# Altium integrated library TI Amplifiers and Linear Operational Amplifier High Speed.IntLib: 1100 symbols (part 25 of 44)
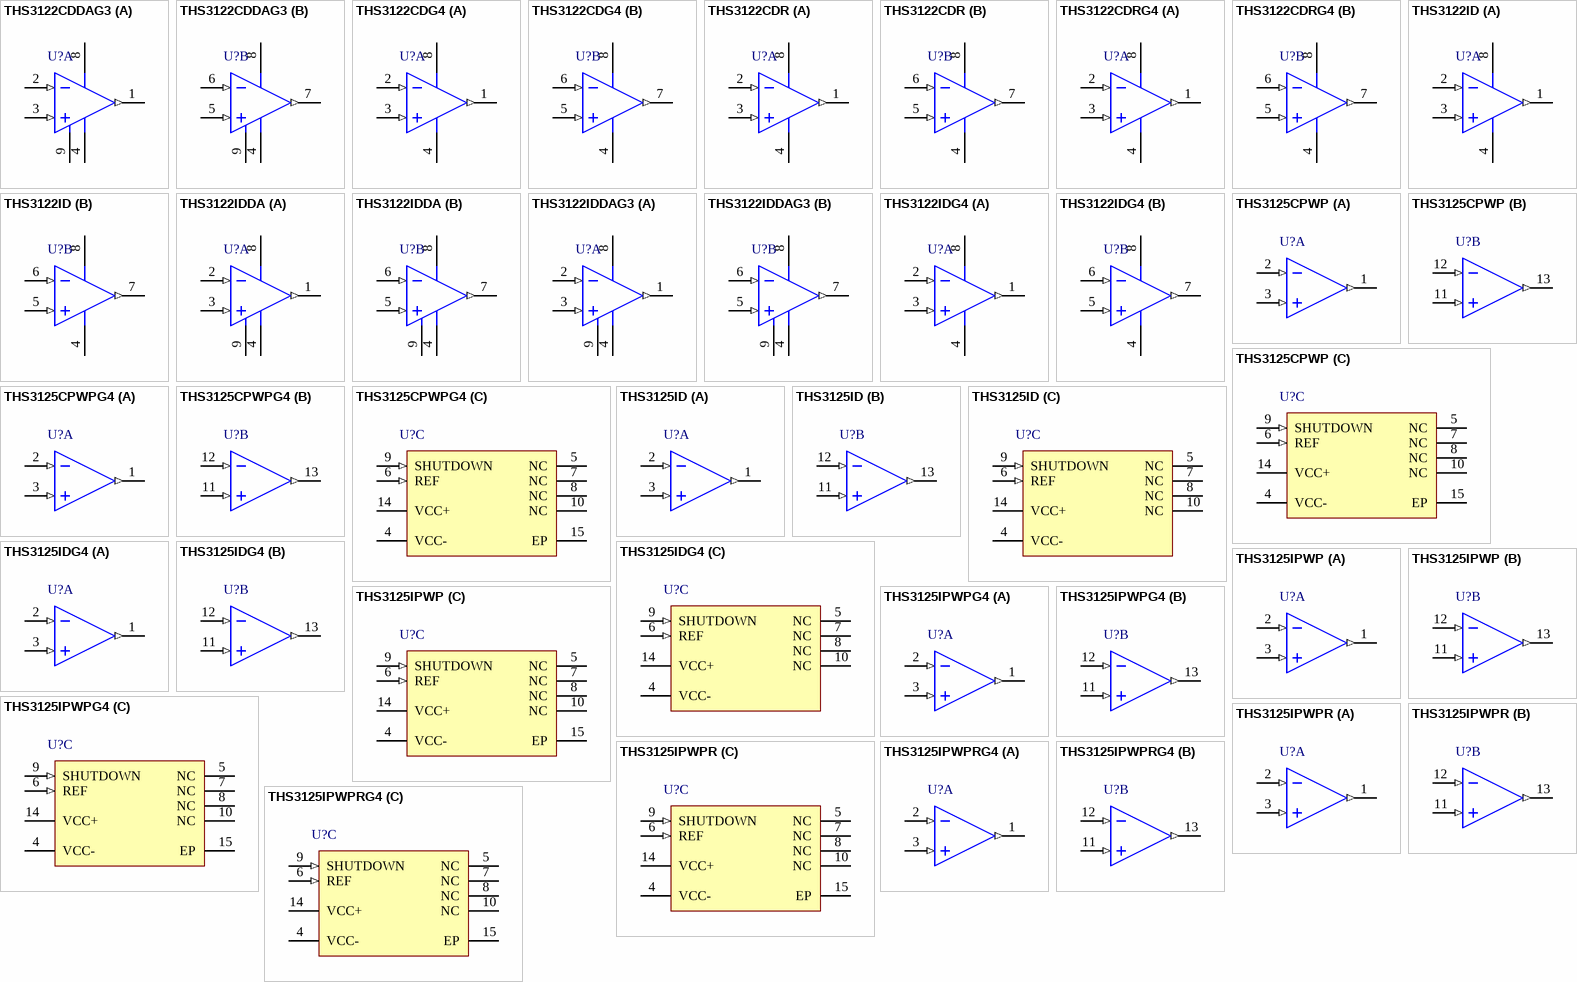
[diagram p75: symbols THS3122CDDAG3 to THS3125IPWPRG4]

## THS3125IPWPRG4
designator U?
Dual, High Output Current, 120 MHz Amplifier with Shutdown, 10 to 30 V, -40 to 85 degC, 14-pin SOP (PWP14), Green (RoHS & no Sb/Br); Manufacturer: Texas Instruments; PartNumber: THS3125IPWPRG4; 2nd Harmonic(dBc): 62; 3rd Harmonic(dBc): 55; @ MHz: 10; Acl, min stable gain(V/V): 1; BW @ Acl(MHz): 160; Diff Gain(%): 0.01; Diff Phase(deg): 0.011; Iib(Max)(nA): 3000; Io(Typ)(mA): 440; Iq per channel(Max)(mA): 9; Number of Channels: 2; Settling Time (0.1%)(Typ)(ns): 64; Slew Rate(Typ)(V/us): 1550; Sub Family: High Output Current Amplifier (>=50mA), High Speed Amplifier (>=50MHz), High Supply Voltage Amplifier (>=30V); THD (Fc is 1 MHz)(Typ)(dB): -77; Vn at Flatband(Typ)(nV/rtHz): 2.2; Vs(Max)(V): 30; DatasheetVersion: SLOS382D; PackageVersion: 4073225-2/I, 05/2011; PackageReference: PWP14-1830X2055TP; PackageDescription: 14-Pin Plastic Small Outline, Body 4.4 x 5 mm, Pitch 0.65 mm; Supplier 1: Digi-Key; Supplier Part Number 1: THS3125IPWPRG4-ND; Supplier 2: Mouser; Supplier Part Number 2: 595-THS3125IPWPRG4; Eco-Plan: Green (RoHS & no Sb/Br); Vio(Max)(mV): 10; Vs(Min)(V): 10; Mounting Technology: Surface Mount; Code_JEDEC: MO-153; ComponentLink1Description: Manufacturer URL; ComponentLink1URL: http://www.ti.com/; ComponentLink2Description: Datasheet; ComponentLink2URL: http://www.ti.com/general/docs/lit/getliterature.tsp?genericPartNumber=THS3125&fileType=pdf; ComponentLink3Description: Package Specification; ComponentLink3URL: http://www.ti.com/litv/pdf/mpds373
footprint TI-PWP14-1830X2055TP_N (SOP, 14-Leads, Body 5x4.4mm, Pitch 0.65mm, Thermal Pad 1.830x2.055mm, IPC Medium Density)
footprint TI-PWP14-1830X2055TP_L (SOP, 14-Leads, Body 5x4.4mm, Pitch 0.65mm, Thermal Pad 1.830x2.055mm, IPC High Density)
footprint TI-PWP14-1830X2055TP_M (SOP, 14-Leads, Body 5x4.4mm, Pitch 0.65mm, Thermal Pad 1.830x2.055mm, IPC Low Density)
part A pins: 1 OUT1 (out), 2 IN1- (in), 3 IN1+ (in)
part B pins: 11 IN2+ (in), 12 IN2- (in), 13 OUT2 (out)
part C pins: 4 VCC- (power), 5 NC, 6 REF (in), 7 NC, 8 NC, 9 SHUTDOWN (in), 10 NC, 14 VCC+ (power), 15 EP

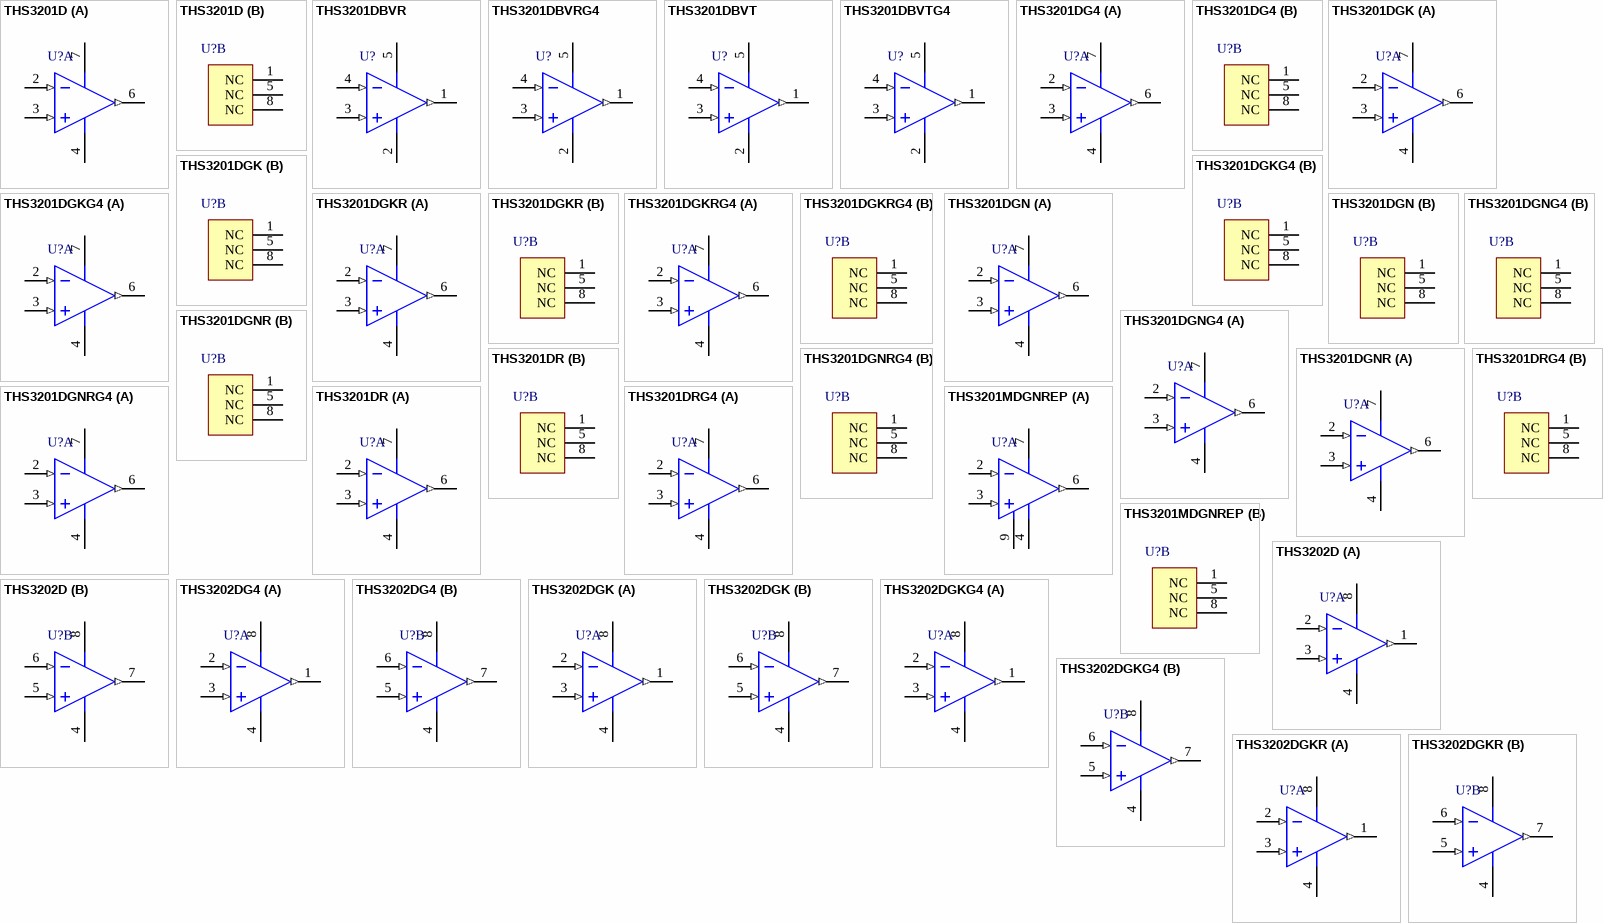
[diagram p30: symbols THS3201D to THS3202DGKR]

## THS3201D
designator U?
1.8 GHz Current Feedback Amplifier, 6.6 to 15 V, -40 to 85 degC, 8-pin SOIC (D8), Green (RoHS & no Sb/Br); Manufacturer: Texas Instruments; PartNumber: THS3201D; 2nd Harmonic(dBc): 64; 3rd Harmonic(dBc): 73; @ MHz: 10; Acl, min stable gain(V/V): 1; BW @ Acl(MHz): 1800; Diff Gain(%): 0.008; Diff Phase(deg): 0.007; Iib(Max)(nA): 50000; Io(Typ)(mA): 115; Iq per channel(Max)(mA): 21; Settling Time (0.1%)(Typ)(ns): 20; Slew Rate(Typ)(V/us): 6700; Sub Family: High Output Current Amplifier (>=50mA), High Speed Amplifier (>=50MHz); THD (Fc is 1 MHz)(Typ)(dB): -90; Vio(Max)(mV): 4; Vn at Flatband(Typ)(nV/rtHz): 1.65; Vs(Max)(V): 15; Vs(Min)(V): 6.6; DatasheetVersion: SLOS416C; PackageVersion: 4040047-3/M, 06/2011; PackageReference: D8; PackageDescription: 8-Pin Plastic Small Outline, Body 4.9 x 3.9 mm, Pitch 1.27 mm; Supplier 1: Digi-Key; Supplier Part Number 1: 296-15216-5-ND; Supplier 2: Farnell; Supplier Part Number 2: 8453063; Supplier 3: Newark; Supplier Part Number 3: 38K8233; Supplier 4: Newark; Supplier Part Number 4: 73H4611; Supplier 5: Mouser; Supplier Part Number 5: 595-THS3201D; Eco-Plan: Green (RoHS & no Sb/Br); Number of Channels: 1; Mounting Technology: Surface Mount; Code_JEDEC: MS-012; ComponentLink1Description: Manufacturer URL; ComponentLink1URL: http://www.ti.com/; ComponentLink2Description: Datasheet; ComponentLink2URL: http://www.ti.com/general/docs/lit/getliterature.tsp?genericPartNumber=THS3201&fileType=pdf; ComponentLink3Description: Package Specification; ComponentLink3URL: http://www.ti.com/litv/pdf/msoi002j
footprint TI-D8_N (SOIC, 8-Leads, Body 4.9x3.9mm, Pitch 1.27mm, IPC Medium Density)
footprint TI-D8_L (SOIC, 8-Leads, Body 4.9x3.9mm, Pitch 1.27mm, IPC High Density)
footprint TI-D8_M (SOIC, 8-Leads, Body 4.9x3.9mm, Pitch 1.27mm, IPC Low Density)
part A pins: 2 VIN- (in), 3 VIN+ (in), 4 VS- (power), 6 VOUT (out), 7 VS+ (power)
part B pins: 1 NC, 5 NC, 8 NC

## THS3201DBVR
designator U?
1.8 GHz Current Feedback Amplifier, 6.6 to 15 V, -40 to 85 degC, 5-pin SOT23 (DBV5), Green (RoHS & no Sb/Br); Manufacturer: Texas Instruments; PartNumber: THS3201DBVR; 2nd Harmonic(dBc): 64; 3rd Harmonic(dBc): 73; @ MHz: 10; Acl, min stable gain(V/V): 1; BW @ Acl(MHz): 1800; Diff Gain(%): 0.008; Diff Phase(deg): 0.007; Iib(Max)(nA): 50000; Io(Typ)(mA): 115; Iq per channel(Max)(mA): 21; Settling Time (0.1%)(Typ)(ns): 20; Slew Rate(Typ)(V/us): 6700; Sub Family: High Output Current Amplifier (>=50mA), High Speed Amplifier (>=50MHz); THD (Fc is 1 MHz)(Typ)(dB): -90; Vio(Max)(mV): 4; Vn at Flatband(Typ)(nV/rtHz): 1.65; Vs(Max)(V): 15; Vs(Min)(V): 6.6; DatasheetVersion: SLOS416C; PackageVersion: 4073253-4/K, 03/2006; PackageReference: DBV5; PackageDescription: 5-Pin Plastic Small Outline, Body 1.6 x 2.9 mm, Pitch 0.95 mm; Supplier 1: Digi-Key; Supplier Part Number 1: THS3201DBVR-ND; Supplier 2: Mouser; Supplier Part Number 2: 595-THS3201DBVR; Eco-Plan: Green (RoHS & no Sb/Br); Number of Channels: 1; Mounting Technology: Surface Mount; Code_JEDEC: MO-178; ComponentLink1Description: Manufacturer URL; ComponentLink1URL: http://www.ti.com/; ComponentLink2Description: Datasheet; ComponentLink2URL: http://www.ti.com/general/docs/lit/getliterature.tsp?genericPartNumber=THS3201&fileType=pdf; ComponentLink3Description: Package Specification; ComponentLink3URL: http://www.ti.com/litv/pdf/mpds018i
footprint TI-DBV5_N (SOT23, 5-Leads, Body 2.9x1.6mm, Pitch 0.95mm, IPC Medium Density)
footprint TI-DBV5_L (SOT23, 5-Leads, Body 2.9x1.6mm, Pitch 0.95mm, IPC High Density)
footprint TI-DBV5_M (SOT23, 5-Leads, Body 2.9x1.6mm, Pitch 0.95mm, IPC Low Density)
pins: 1 VOUT (out), 2 VS- (power), 3 IN+ (in), 4 IN- (in), 5 VS+ (power)

## THS3201DBVRG4
designator U?
1.8 GHz Current Feedback Amplifier, 6.6 to 15 V, -40 to 85 degC, 5-pin SOT23 (DBV5), Green (RoHS & no Sb/Br); Manufacturer: Texas Instruments; PartNumber: THS3201DBVRG4; 2nd Harmonic(dBc): 64; 3rd Harmonic(dBc): 73; @ MHz: 10; Acl, min stable gain(V/V): 1; BW @ Acl(MHz): 1800; Diff Gain(%): 0.008; Diff Phase(deg): 0.007; Iib(Max)(nA): 50000; Io(Typ)(mA): 115; Iq per channel(Max)(mA): 21; Settling Time (0.1%)(Typ)(ns): 20; Slew Rate(Typ)(V/us): 6700; Sub Family: High Output Current Amplifier (>=50mA), High Speed Amplifier (>=50MHz); THD (Fc is 1 MHz)(Typ)(dB): -90; Vio(Max)(mV): 4; Vn at Flatband(Typ)(nV/rtHz): 1.65; Vs(Max)(V): 15; Vs(Min)(V): 6.6; DatasheetVersion: SLOS416C; PackageVersion: 4073253-4/K, 03/2006; PackageReference: DBV5; PackageDescription: 5-Pin Plastic Small Outline, Body 1.6 x 2.9 mm, Pitch 0.95 mm; Supplier 1: Digi-Key; Supplier Part Number 1: THS3201DBVRG4-ND; Supplier 2: Mouser; Supplier Part Number 2: 595-THS3201DBVRG4; Eco-Plan: Green (RoHS & no Sb/Br); Number of Channels: 1; Mounting Technology: Surface Mount; Code_JEDEC: MO-178; ComponentLink1Description: Manufacturer URL; ComponentLink1URL: http://www.ti.com/; ComponentLink2Description: Datasheet; ComponentLink2URL: http://www.ti.com/general/docs/lit/getliterature.tsp?genericPartNumber=THS3201&fileType=pdf; ComponentLink3Description: Package Specification; ComponentLink3URL: http://www.ti.com/litv/pdf/mpds018i
footprint TI-DBV5_N (SOT23, 5-Leads, Body 2.9x1.6mm, Pitch 0.95mm, IPC Medium Density)
footprint TI-DBV5_L (SOT23, 5-Leads, Body 2.9x1.6mm, Pitch 0.95mm, IPC High Density)
footprint TI-DBV5_M (SOT23, 5-Leads, Body 2.9x1.6mm, Pitch 0.95mm, IPC Low Density)
pins: 1 VOUT (out), 2 VS- (power), 3 IN+ (in), 4 IN- (in), 5 VS+ (power)

## THS3201DBVT
designator U?
1.8 GHz Current Feedback Amplifier, 6.6 to 15 V, -40 to 85 degC, 5-pin SOT23 (DBV5), Green (RoHS & no Sb/Br); Manufacturer: Texas Instruments; PartNumber: THS3201DBVT; 2nd Harmonic(dBc): 64; 3rd Harmonic(dBc): 73; @ MHz: 10; Acl, min stable gain(V/V): 1; BW @ Acl(MHz): 1800; Diff Gain(%): 0.008; Diff Phase(deg): 0.007; Iib(Max)(nA): 50000; Io(Typ)(mA): 115; Iq per channel(Max)(mA): 21; Settling Time (0.1%)(Typ)(ns): 20; Slew Rate(Typ)(V/us): 6700; Sub Family: High Output Current Amplifier (>=50mA), High Speed Amplifier (>=50MHz); THD (Fc is 1 MHz)(Typ)(dB): -90; Vio(Max)(mV): 4; Vn at Flatband(Typ)(nV/rtHz): 1.65; Vs(Max)(V): 15; Vs(Min)(V): 6.6; DatasheetVersion: SLOS416C; PackageVersion: 4073253-4/K, 03/2006; PackageReference: DBV5; PackageDescription: 5-Pin Plastic Small Outline, Body 1.6 x 2.9 mm, Pitch 0.95 mm; Supplier 1: Digi-Key; Supplier Part Number 1: 296-15217-2-ND; Supplier 2: Digi-Key; Supplier Part Number 2: 296-15217-1-ND; Supplier 3: Digi-Key; Supplier Part Number 3: 296-15217-6-ND; Supplier 4: Newark; Supplier Part Number 4: 73H4613; Supplier 5: Mouser; Supplier Part Number 5: 595-THS3201DBVT; Eco-Plan: Green (RoHS & no Sb/Br); Number of Channels: 1; Mounting Technology: Surface Mount; Code_JEDEC: MO-178; ComponentLink1Description: Manufacturer URL; ComponentLink1URL: http://www.ti.com/; ComponentLink2Description: Datasheet; ComponentLink2URL: http://www.ti.com/general/docs/lit/getliterature.tsp?genericPartNumber=THS3201&fileType=pdf; ComponentLink3Description: Package Specification; ComponentLink3URL: http://www.ti.com/litv/pdf/mpds018i
footprint TI-DBV5_N (SOT23, 5-Leads, Body 2.9x1.6mm, Pitch 0.95mm, IPC Medium Density)
footprint TI-DBV5_L (SOT23, 5-Leads, Body 2.9x1.6mm, Pitch 0.95mm, IPC High Density)
footprint TI-DBV5_M (SOT23, 5-Leads, Body 2.9x1.6mm, Pitch 0.95mm, IPC Low Density)
pins: 1 VOUT (out), 2 VS- (power), 3 IN+ (in), 4 IN- (in), 5 VS+ (power)

## THS3201DBVTG4
designator U?
1.8 GHz Current Feedback Amplifier, 6.6 to 15 V, -40 to 85 degC, 5-pin SOT23 (DBV5), Green (RoHS & no Sb/Br); Manufacturer: Texas Instruments; PartNumber: THS3201DBVTG4; 2nd Harmonic(dBc): 64; 3rd Harmonic(dBc): 73; @ MHz: 10; Acl, min stable gain(V/V): 1; BW @ Acl(MHz): 1800; Diff Gain(%): 0.008; Diff Phase(deg): 0.007; Iib(Max)(nA): 50000; Io(Typ)(mA): 115; Iq per channel(Max)(mA): 21; Settling Time (0.1%)(Typ)(ns): 20; Slew Rate(Typ)(V/us): 6700; Sub Family: High Output Current Amplifier (>=50mA), High Speed Amplifier (>=50MHz); THD (Fc is 1 MHz)(Typ)(dB): -90; Vio(Max)(mV): 4; Vn at Flatband(Typ)(nV/rtHz): 1.65; Vs(Max)(V): 15; Vs(Min)(V): 6.6; DatasheetVersion: SLOS416C; PackageVersion: 4073253-4/K, 03/2006; PackageReference: DBV5; PackageDescription: 5-Pin Plastic Small Outline, Body 1.6 x 2.9 mm, Pitch 0.95 mm; Supplier 1: Digi-Key; Supplier Part Number 1: THS3201DBVTG4-ND; Supplier 2: Mouser; Supplier Part Number 2: 595-THS3201DBVTG4; Eco-Plan: Green (RoHS & no Sb/Br); Number of Channels: 1; Mounting Technology: Surface Mount; Code_JEDEC: MO-178; ComponentLink1Description: Manufacturer URL; ComponentLink1URL: http://www.ti.com/; ComponentLink2Description: Datasheet; ComponentLink2URL: http://www.ti.com/general/docs/lit/getliterature.tsp?genericPartNumber=THS3201&fileType=pdf; ComponentLink3Description: Package Specification; ComponentLink3URL: http://www.ti.com/litv/pdf/mpds018i
footprint TI-DBV5_N (SOT23, 5-Leads, Body 2.9x1.6mm, Pitch 0.95mm, IPC Medium Density)
footprint TI-DBV5_L (SOT23, 5-Leads, Body 2.9x1.6mm, Pitch 0.95mm, IPC High Density)
footprint TI-DBV5_M (SOT23, 5-Leads, Body 2.9x1.6mm, Pitch 0.95mm, IPC Low Density)
pins: 1 VOUT (out), 2 VS- (power), 3 IN+ (in), 4 IN- (in), 5 VS+ (power)

## THS3201DG4
designator U?
1.8 GHz Current Feedback Amplifier, 6.6 to 15 V, -40 to 85 degC, 8-pin SOIC (D8), Green (RoHS & no Sb/Br); Manufacturer: Texas Instruments; PartNumber: THS3201DG4; 2nd Harmonic(dBc): 64; 3rd Harmonic(dBc): 73; @ MHz: 10; Acl, min stable gain(V/V): 1; BW @ Acl(MHz): 1800; Diff Gain(%): 0.008; Diff Phase(deg): 0.007; Iib(Max)(nA): 50000; Io(Typ)(mA): 115; Iq per channel(Max)(mA): 21; Settling Time (0.1%)(Typ)(ns): 20; Slew Rate(Typ)(V/us): 6700; Sub Family: High Output Current Amplifier (>=50mA), High Speed Amplifier (>=50MHz); THD (Fc is 1 MHz)(Typ)(dB): -90; Vio(Max)(mV): 4; Vn at Flatband(Typ)(nV/rtHz): 1.65; Vs(Max)(V): 15; Vs(Min)(V): 6.6; DatasheetVersion: SLOS416C; PackageVersion: 4040047-3/M, 06/2011; PackageReference: D8; PackageDescription: 8-Pin Plastic Small Outline, Body 4.9 x 3.9 mm, Pitch 1.27 mm; Supplier 1: Digi-Key; Supplier Part Number 1: THS3201DG4-ND; Supplier 2: Mouser; Supplier Part Number 2: 595-THS3201DG4; Eco-Plan: Green (RoHS & no Sb/Br); Number of Channels: 1; Mounting Technology: Surface Mount; Code_JEDEC: MS-012; ComponentLink1Description: Manufacturer URL; ComponentLink1URL: http://www.ti.com/; ComponentLink2Description: Datasheet; ComponentLink2URL: http://www.ti.com/general/docs/lit/getliterature.tsp?genericPartNumber=THS3201&fileType=pdf; ComponentLink3Description: Package Specification; ComponentLink3URL: http://www.ti.com/litv/pdf/msoi002j
footprint TI-D8_N (SOIC, 8-Leads, Body 4.9x3.9mm, Pitch 1.27mm, IPC Medium Density)
footprint TI-D8_L (SOIC, 8-Leads, Body 4.9x3.9mm, Pitch 1.27mm, IPC High Density)
footprint TI-D8_M (SOIC, 8-Leads, Body 4.9x3.9mm, Pitch 1.27mm, IPC Low Density)
part A pins: 2 VIN- (in), 3 VIN+ (in), 4 VS- (power), 6 VOUT (out), 7 VS+ (power)
part B pins: 1 NC, 5 NC, 8 NC

## THS3201DGK
designator U?
1.8 GHz Current Feedback Amplifier, 6.6 to 15 V, 0 to 70 degC, 8-pin SOP (DGK8), Green (RoHS & no Sb/Br); Manufacturer: Texas Instruments; PartNumber: THS3201DGK; 2nd Harmonic(dBc): 64; 3rd Harmonic(dBc): 73; @ MHz: 10; Acl, min stable gain(V/V): 1; BW @ Acl(MHz): 1800; Diff Gain(%): 0.008; Diff Phase(deg): 0.007; Iib(Max)(nA): 50000; Io(Typ)(mA): 115; Iq per channel(Max)(mA): 21; Settling Time (0.1%)(Typ)(ns): 20; Slew Rate(Typ)(V/us): 6700; Sub Family: High Output Current Amplifier (>=50mA), High Speed Amplifier (>=50MHz); THD (Fc is 1 MHz)(Typ)(dB): -90; Vio(Max)(mV): 4; Vn at Flatband(Typ)(nV/rtHz): 1.65; Vs(Max)(V): 15; Vs(Min)(V): 6.6; DatasheetVersion: SLOS416C; PackageVersion: 4073329/E, 05/2006; PackageReference: DGK8; PackageDescription: 8-Pin Thin Small Outline, Body 3 x 3 mm, Pitch 0.65 mm; Supplier 1: Digi-Key; Supplier Part Number 1: 296-16776-5-ND; Supplier 2: Mouser; Supplier Part Number 2: 595-THS3201DGK; Eco-Plan: Green (RoHS & no Sb/Br); Number of Channels: 1; Mounting Technology: Surface Mount; Code_JEDEC: MO-187; ComponentLink1Description: Manufacturer URL; ComponentLink1URL: http://www.ti.com/; ComponentLink2Description: Datasheet; ComponentLink2URL: http://www.ti.com/general/docs/lit/getliterature.tsp?genericPartNumber=THS3201&fileType=pdf; ComponentLink3Description: Package Specification; ComponentLink3URL: http://www.ti.com/litv/pdf/mpds028d
footprint TI-DGK8_N (SOP, 8-Leads, Body 3x3mm, Pitch 0.65mm, IPC Medium Density)
footprint TI-DGK8_L (SOP, 8-Leads, Body 3x3mm, Pitch 0.65mm, IPC High Density)
footprint TI-DGK8_M (SOP, 8-Leads, Body 3x3mm, Pitch 0.65mm, IPC Low Density)
part A pins: 2 VIN- (in), 3 VIN+ (in), 4 VS- (power), 6 VOUT (out), 7 VS+ (power)
part B pins: 1 NC, 5 NC, 8 NC

## THS3201DGKG4
designator U?
1.8 GHz Current Feedback Amplifier, 6.6 to 15 V, 0 to 70 degC, 8-pin SOP (DGK8), Green (RoHS & no Sb/Br); Manufacturer: Texas Instruments; PartNumber: THS3201DGKG4; 2nd Harmonic(dBc): 64; 3rd Harmonic(dBc): 73; @ MHz: 10; Acl, min stable gain(V/V): 1; BW @ Acl(MHz): 1800; Diff Gain(%): 0.008; Diff Phase(deg): 0.007; Iib(Max)(nA): 50000; Io(Typ)(mA): 115; Iq per channel(Max)(mA): 21; Settling Time (0.1%)(Typ)(ns): 20; Slew Rate(Typ)(V/us): 6700; Sub Family: High Output Current Amplifier (>=50mA), High Speed Amplifier (>=50MHz); THD (Fc is 1 MHz)(Typ)(dB): -90; Vio(Max)(mV): 4; Vn at Flatband(Typ)(nV/rtHz): 1.65; Vs(Max)(V): 15; Vs(Min)(V): 6.6; DatasheetVersion: SLOS416C; PackageVersion: 4073329/E, 05/2006; PackageReference: DGK8; PackageDescription: 8-Pin Thin Small Outline, Body 3 x 3 mm, Pitch 0.65 mm; Supplier 1: Digi-Key; Supplier Part Number 1: THS3201DGKG4-ND; Supplier 2: Mouser; Supplier Part Number 2: 595-THS3201DGKG4; Eco-Plan: Green (RoHS & no Sb/Br); Number of Channels: 1; Mounting Technology: Surface Mount; Code_JEDEC: MO-187; ComponentLink1Description: Manufacturer URL; ComponentLink1URL: http://www.ti.com/; ComponentLink2Description: Datasheet; ComponentLink2URL: http://www.ti.com/general/docs/lit/getliterature.tsp?genericPartNumber=THS3201&fileType=pdf; ComponentLink3Description: Package Specification; ComponentLink3URL: http://www.ti.com/litv/pdf/mpds028d
footprint TI-DGK8_N (SOP, 8-Leads, Body 3x3mm, Pitch 0.65mm, IPC Medium Density)
footprint TI-DGK8_L (SOP, 8-Leads, Body 3x3mm, Pitch 0.65mm, IPC High Density)
footprint TI-DGK8_M (SOP, 8-Leads, Body 3x3mm, Pitch 0.65mm, IPC Low Density)
part A pins: 2 VIN- (in), 3 VIN+ (in), 4 VS- (power), 6 VOUT (out), 7 VS+ (power)
part B pins: 1 NC, 5 NC, 8 NC

## THS3201DGKR
designator U?
1.8 GHz Current Feedback Amplifier, 6.6 to 15 V, 0 to 70 degC, 8-pin SOP (DGK8), Green (RoHS & no Sb/Br); Manufacturer: Texas Instruments; PartNumber: THS3201DGKR; 2nd Harmonic(dBc): 64; 3rd Harmonic(dBc): 73; @ MHz: 10; Acl, min stable gain(V/V): 1; BW @ Acl(MHz): 1800; Diff Gain(%): 0.008; Diff Phase(deg): 0.007; Iib(Max)(nA): 50000; Io(Typ)(mA): 115; Iq per channel(Max)(mA): 21; Settling Time (0.1%)(Typ)(ns): 20; Slew Rate(Typ)(V/us): 6700; Sub Family: High Output Current Amplifier (>=50mA), High Speed Amplifier (>=50MHz); THD (Fc is 1 MHz)(Typ)(dB): -90; Vio(Max)(mV): 4; Vn at Flatband(Typ)(nV/rtHz): 1.65; Vs(Max)(V): 15; Vs(Min)(V): 6.6; DatasheetVersion: SLOS416C; PackageVersion: 4073329/E, 05/2006; PackageReference: DGK8; PackageDescription: 8-Pin Thin Small Outline, Body 3 x 3 mm, Pitch 0.65 mm; Supplier 1: Digi-Key; Supplier Part Number 1: THS3201DGKR-ND; Supplier 2: Mouser; Supplier Part Number 2: 595-THS3201DGKR; Eco-Plan: Green (RoHS & no Sb/Br); Number of Channels: 1; Mounting Technology: Surface Mount; Code_JEDEC: MO-187; ComponentLink1Description: Manufacturer URL; ComponentLink1URL: http://www.ti.com/; ComponentLink2Description: Datasheet; ComponentLink2URL: http://www.ti.com/general/docs/lit/getliterature.tsp?genericPartNumber=THS3201&fileType=pdf; ComponentLink3Description: Package Specification; ComponentLink3URL: http://www.ti.com/litv/pdf/mpds028d
footprint TI-DGK8_N (SOP, 8-Leads, Body 3x3mm, Pitch 0.65mm, IPC Medium Density)
footprint TI-DGK8_L (SOP, 8-Leads, Body 3x3mm, Pitch 0.65mm, IPC High Density)
footprint TI-DGK8_M (SOP, 8-Leads, Body 3x3mm, Pitch 0.65mm, IPC Low Density)
part A pins: 2 VIN- (in), 3 VIN+ (in), 4 VS- (power), 6 VOUT (out), 7 VS+ (power)
part B pins: 1 NC, 5 NC, 8 NC

## THS3201DGKRG4
designator U?
1.8 GHz Current Feedback Amplifier, 6.6 to 15 V, 0 to 70 degC, 8-pin SOP (DGK8), Green (RoHS & no Sb/Br); Manufacturer: Texas Instruments; PartNumber: THS3201DGKRG4; 2nd Harmonic(dBc): 64; 3rd Harmonic(dBc): 73; @ MHz: 10; Acl, min stable gain(V/V): 1; BW @ Acl(MHz): 1800; Diff Gain(%): 0.008; Diff Phase(deg): 0.007; Iib(Max)(nA): 50000; Io(Typ)(mA): 115; Iq per channel(Max)(mA): 21; Settling Time (0.1%)(Typ)(ns): 20; Slew Rate(Typ)(V/us): 6700; Sub Family: High Output Current Amplifier (>=50mA), High Speed Amplifier (>=50MHz); THD (Fc is 1 MHz)(Typ)(dB): -90; Vio(Max)(mV): 4; Vn at Flatband(Typ)(nV/rtHz): 1.65; Vs(Max)(V): 15; Vs(Min)(V): 6.6; DatasheetVersion: SLOS416C; PackageVersion: 4073329/E, 05/2006; PackageReference: DGK8; PackageDescription: 8-Pin Thin Small Outline, Body 3 x 3 mm, Pitch 0.65 mm; Supplier 1: Digi-Key; Supplier Part Number 1: THS3201DGKRG4-ND; Supplier 2: Mouser; Supplier Part Number 2: 595-THS3201DGKRG4; Eco-Plan: Green (RoHS & no Sb/Br); Number of Channels: 1; Mounting Technology: Surface Mount; Code_JEDEC: MO-187; ComponentLink1Description: Manufacturer URL; ComponentLink1URL: http://www.ti.com/; ComponentLink2Description: Datasheet; ComponentLink2URL: http://www.ti.com/general/docs/lit/getliterature.tsp?genericPartNumber=THS3201&fileType=pdf; ComponentLink3Description: Package Specification; ComponentLink3URL: http://www.ti.com/litv/pdf/mpds028d
footprint TI-DGK8_N (SOP, 8-Leads, Body 3x3mm, Pitch 0.65mm, IPC Medium Density)
footprint TI-DGK8_L (SOP, 8-Leads, Body 3x3mm, Pitch 0.65mm, IPC High Density)
footprint TI-DGK8_M (SOP, 8-Leads, Body 3x3mm, Pitch 0.65mm, IPC Low Density)
part A pins: 2 VIN- (in), 3 VIN+ (in), 4 VS- (power), 6 VOUT (out), 7 VS+ (power)
part B pins: 1 NC, 5 NC, 8 NC

## THS3201DGN
designator U?
1.8 GHz Current Feedback Amplifier, 6.6 to 15 V, -40 to 85 degC, 8-pin SOIC (DGN8), Green (RoHS & no Sb/Br); Manufacturer: Texas Instruments; PartNumber: THS3201DGN; 2nd Harmonic(dBc): 64; 3rd Harmonic(dBc): 73; @ MHz: 10; Acl, min stable gain(V/V): 1; BW @ Acl(MHz): 1800; Diff Gain(%): 0.008; Diff Phase(deg): 0.007; Iib(Max)(nA): 50000; Io(Typ)(mA): 115; Iq per channel(Max)(mA): 21; Settling Time (0.1%)(Typ)(ns): 20; Slew Rate(Typ)(V/us): 6700; Sub Family: High Output Current Amplifier (>=50mA), High Speed Amplifier (>=50MHz); THD (Fc is 1 MHz)(Typ)(dB): -90; Vio(Max)(mV): 4; Vn at Flatband(Typ)(nV/rtHz): 1.65; Vs(Max)(V): 15; Vs(Min)(V): 6.6; DatasheetVersion: SLOS416C; PackageVersion: 4073271/F, 05/2011; PackageReference: DGN8-1760X1425TP; PackageDescription: 8-pin Plastic Small Outline, Body 3 x 3 mm, Pitch 0.65 mm; Supplier 1: Digi-Key; Supplier Part Number 1: 296-15218-5-ND; Supplier 2: Farnell; Supplier Part Number 2: 8453071; Supplier 3: Newark; Supplier Part Number 3: 73H4614; Supplier 4: Mouser; Supplier Part Number 4: 595-THS3201DGN; Eco-Plan: Green (RoHS & no Sb/Br); Number of Channels: 1; Mounting Technology: Surface Mount; Code_JEDEC: MO-187; ComponentLink1Description: Manufacturer URL; ComponentLink1URL: http://www.ti.com/; ComponentLink2Description: Datasheet; ComponentLink2URL: http://www.ti.com/general/docs/lit/getliterature.tsp?genericPartNumber=THS3201&fileType=pdf; ComponentLink3Description: Package Specification; ComponentLink3URL: http://www.ti.com/litv/pdf/mpds046e
footprint TI-DGN8-1760X1425TP_N (SOP, 8-Leads, Body 3x3mm, Pitch 0.65mm, Thermal Pad 1.76x1.425mm, IPC Medium Density)
footprint TI-DGN8-1760X1425TP_L (SOP, 8-Leads, Body 3x3mm, Pitch 0.65mm, Thermal Pad 1.76x1.425mm, IPC High Density)
footprint TI-DGN8-1760X1425TP_M (SOP, 8-Leads, Body 3x3mm, Pitch 0.65mm, Thermal Pad 1.76 x 1.425 mm, IPC Low Density)
part A pins: 2 VIN- (in), 3 VIN+ (in), 4 VS- (power), 6 VOUT (out), 7 VS+ (power)
part B pins: 1 NC, 5 NC, 8 NC

## THS3201DGNG4
designator U?
1.8 GHz Current Feedback Amplifier, 6.6 to 15 V, -40 to 85 degC, 8-pin SOIC (DGN8), Green (RoHS & no Sb/Br); Manufacturer: Texas Instruments; PartNumber: THS3201DGNG4; 2nd Harmonic(dBc): 64; 3rd Harmonic(dBc): 73; @ MHz: 10; Acl, min stable gain(V/V): 1; BW @ Acl(MHz): 1800; Diff Gain(%): 0.008; Diff Phase(deg): 0.007; Iib(Max)(nA): 50000; Io(Typ)(mA): 115; Iq per channel(Max)(mA): 21; Settling Time (0.1%)(Typ)(ns): 20; Slew Rate(Typ)(V/us): 6700; Sub Family: High Output Current Amplifier (>=50mA), High Speed Amplifier (>=50MHz); THD (Fc is 1 MHz)(Typ)(dB): -90; Vio(Max)(mV): 4; Vn at Flatband(Typ)(nV/rtHz): 1.65; Vs(Max)(V): 15; Vs(Min)(V): 6.6; DatasheetVersion: SLOS416C; PackageVersion: 4073271/F, 05/2011; PackageReference: DGN8-1760X1425TP; PackageDescription: 8-pin Plastic Small Outline, Body 3 x 3 mm, Pitch 0.65 mm; Supplier 1: Digi-Key; Supplier Part Number 1: THS3201DGNG4-ND; Supplier 2: Mouser; Supplier Part Number 2: 595-THS3201DGNG4; Eco-Plan: Green (RoHS & no Sb/Br); Number of Channels: 1; Mounting Technology: Surface Mount; Code_JEDEC: MO-187; ComponentLink1Description: Manufacturer URL; ComponentLink1URL: http://www.ti.com/; ComponentLink2Description: Datasheet; ComponentLink2URL: http://www.ti.com/general/docs/lit/getliterature.tsp?genericPartNumber=THS3201&fileType=pdf; ComponentLink3Description: Package Specification; ComponentLink3URL: http://www.ti.com/litv/pdf/mpds046e
footprint TI-DGN8-1760X1425TP_N (SOP, 8-Leads, Body 3x3mm, Pitch 0.65mm, Thermal Pad 1.76x1.425mm, IPC Medium Density)
footprint TI-DGN8-1760X1425TP_L (SOP, 8-Leads, Body 3x3mm, Pitch 0.65mm, Thermal Pad 1.76x1.425mm, IPC High Density)
footprint TI-DGN8-1760X1425TP_M (SOP, 8-Leads, Body 3x3mm, Pitch 0.65mm, Thermal Pad 1.76 x 1.425 mm, IPC Low Density)
part A pins: 2 VIN- (in), 3 VIN+ (in), 4 VS- (power), 6 VOUT (out), 7 VS+ (power)
part B pins: 1 NC, 5 NC, 8 NC

## THS3201DGNR
designator U?
1.8 GHz Current Feedback Amplifier, 6.6 to 15 V, -40 to 85 degC, 8-pin SOIC (DGN8), Green (RoHS & no Sb/Br); Manufacturer: Texas Instruments; PartNumber: THS3201DGNR; 2nd Harmonic(dBc): 64; 3rd Harmonic(dBc): 73; @ MHz: 10; Acl, min stable gain(V/V): 1; BW @ Acl(MHz): 1800; Diff Gain(%): 0.008; Diff Phase(deg): 0.007; Iib(Max)(nA): 50000; Io(Typ)(mA): 115; Iq per channel(Max)(mA): 21; Settling Time (0.1%)(Typ)(ns): 20; Slew Rate(Typ)(V/us): 6700; Sub Family: High Output Current Amplifier (>=50mA), High Speed Amplifier (>=50MHz); THD (Fc is 1 MHz)(Typ)(dB): -90; Vio(Max)(mV): 4; Vn at Flatband(Typ)(nV/rtHz): 1.65; Vs(Max)(V): 15; Vs(Min)(V): 6.6; DatasheetVersion: SLOS416C; PackageVersion: 4073271/F, 05/2011; PackageReference: DGN8-1760X1425TP; PackageDescription: 8-pin Plastic Small Outline, Body 3 x 3 mm, Pitch 0.65 mm; Supplier 1: Digi-Key; Supplier Part Number 1: THS3201DGNR-ND; Supplier 2: Newark; Supplier Part Number 2: 73H4615; Supplier 3: Mouser; Supplier Part Number 3: 595-THS3201DGNR; Eco-Plan: Green (RoHS & no Sb/Br); Number of Channels: 1; Mounting Technology: Surface Mount; Code_JEDEC: MO-187; ComponentLink1Description: Manufacturer URL; ComponentLink1URL: http://www.ti.com/; ComponentLink2Description: Datasheet; ComponentLink2URL: http://www.ti.com/general/docs/lit/getliterature.tsp?genericPartNumber=THS3201&fileType=pdf; ComponentLink3Description: Package Specification; ComponentLink3URL: http://www.ti.com/litv/pdf/mpds046e
footprint TI-DGN8-1760X1425TP_N (SOP, 8-Leads, Body 3x3mm, Pitch 0.65mm, Thermal Pad 1.76x1.425mm, IPC Medium Density)
footprint TI-DGN8-1760X1425TP_L (SOP, 8-Leads, Body 3x3mm, Pitch 0.65mm, Thermal Pad 1.76x1.425mm, IPC High Density)
footprint TI-DGN8-1760X1425TP_M (SOP, 8-Leads, Body 3x3mm, Pitch 0.65mm, Thermal Pad 1.76 x 1.425 mm, IPC Low Density)
part A pins: 2 VIN- (in), 3 VIN+ (in), 4 VS- (power), 6 VOUT (out), 7 VS+ (power)
part B pins: 1 NC, 5 NC, 8 NC

## THS3201DGNRG4
designator U?
1.8 GHz Current Feedback Amplifier, 6.6 to 15 V, -40 to 85 degC, 8-pin SOIC (DGN8), Green (RoHS & no Sb/Br); Manufacturer: Texas Instruments; PartNumber: THS3201DGNRG4; 2nd Harmonic(dBc): 64; 3rd Harmonic(dBc): 73; @ MHz: 10; Acl, min stable gain(V/V): 1; BW @ Acl(MHz): 1800; Diff Gain(%): 0.008; Diff Phase(deg): 0.007; Iib(Max)(nA): 50000; Io(Typ)(mA): 115; Iq per channel(Max)(mA): 21; Settling Time (0.1%)(Typ)(ns): 20; Slew Rate(Typ)(V/us): 6700; Sub Family: High Output Current Amplifier (>=50mA), High Speed Amplifier (>=50MHz); THD (Fc is 1 MHz)(Typ)(dB): -90; Vio(Max)(mV): 4; Vn at Flatband(Typ)(nV/rtHz): 1.65; Vs(Max)(V): 15; Vs(Min)(V): 6.6; DatasheetVersion: SLOS416C; PackageVersion: 4073271/F, 05/2011; PackageReference: DGN8-1760X1425TP; PackageDescription: 8-pin Plastic Small Outline, Body 3 x 3 mm, Pitch 0.65 mm; Supplier 1: Digi-Key; Supplier Part Number 1: THS3201DGNRG4-ND; Supplier 2: Mouser; Supplier Part Number 2: 595-THS3201DGNRG4; Eco-Plan: Green (RoHS & no Sb/Br); Number of Channels: 1; Mounting Technology: Surface Mount; Code_JEDEC: MO-187; ComponentLink1Description: Manufacturer URL; ComponentLink1URL: http://www.ti.com/; ComponentLink2Description: Datasheet; ComponentLink2URL: http://www.ti.com/general/docs/lit/getliterature.tsp?genericPartNumber=THS3201&fileType=pdf; ComponentLink3Description: Package Specification; ComponentLink3URL: http://www.ti.com/litv/pdf/mpds046e
footprint TI-DGN8-1760X1425TP_N (SOP, 8-Leads, Body 3x3mm, Pitch 0.65mm, Thermal Pad 1.76x1.425mm, IPC Medium Density)
footprint TI-DGN8-1760X1425TP_L (SOP, 8-Leads, Body 3x3mm, Pitch 0.65mm, Thermal Pad 1.76x1.425mm, IPC High Density)
footprint TI-DGN8-1760X1425TP_M (SOP, 8-Leads, Body 3x3mm, Pitch 0.65mm, Thermal Pad 1.76 x 1.425 mm, IPC Low Density)
part A pins: 2 VIN- (in), 3 VIN+ (in), 4 VS- (power), 6 VOUT (out), 7 VS+ (power)
part B pins: 1 NC, 5 NC, 8 NC

## THS3201DR
designator U?
1.8 GHz Current Feedback Amplifier, 6.6 to 15 V, -40 to 85 degC, 8-pin SOIC (D8), Green (RoHS & no Sb/Br); Manufacturer: Texas Instruments; PartNumber: THS3201DR; 2nd Harmonic(dBc): 64; 3rd Harmonic(dBc): 73; @ MHz: 10; Acl, min stable gain(V/V): 1; BW @ Acl(MHz): 1800; Diff Gain(%): 0.008; Diff Phase(deg): 0.007; Iib(Max)(nA): 50000; Io(Typ)(mA): 115; Iq per channel(Max)(mA): 21; Settling Time (0.1%)(Typ)(ns): 20; Slew Rate(Typ)(V/us): 6700; Sub Family: High Output Current Amplifier (>=50mA), High Speed Amplifier (>=50MHz); THD (Fc is 1 MHz)(Typ)(dB): -90; Vio(Max)(mV): 4; Vn at Flatband(Typ)(nV/rtHz): 1.65; Vs(Max)(V): 15; Vs(Min)(V): 6.6; DatasheetVersion: SLOS416C; PackageVersion: 4040047-3/M, 06/2011; PackageReference: D8; PackageDescription: 8-Pin Plastic Small Outline, Body 4.9 x 3.9 mm, Pitch 1.27 mm; Supplier 1: Digi-Key; Supplier Part Number 1: THS3201DR-ND; Supplier 2: Newark; Supplier Part Number 2: 73H4616; Supplier 3: Mouser; Supplier Part Number 3: 595-THS3201DR; Eco-Plan: Green (RoHS & no Sb/Br); Number of Channels: 1; Mounting Technology: Surface Mount; Code_JEDEC: MS-012; ComponentLink1Description: Manufacturer URL; ComponentLink1URL: http://www.ti.com/; ComponentLink2Description: Datasheet; ComponentLink2URL: http://www.ti.com/general/docs/lit/getliterature.tsp?genericPartNumber=THS3201&fileType=pdf; ComponentLink3Description: Package Specification; ComponentLink3URL: http://www.ti.com/litv/pdf/msoi002j
footprint TI-D8_N (SOIC, 8-Leads, Body 4.9x3.9mm, Pitch 1.27mm, IPC Medium Density)
footprint TI-D8_L (SOIC, 8-Leads, Body 4.9x3.9mm, Pitch 1.27mm, IPC High Density)
footprint TI-D8_M (SOIC, 8-Leads, Body 4.9x3.9mm, Pitch 1.27mm, IPC Low Density)
part A pins: 2 VIN- (in), 3 VIN+ (in), 4 VS- (power), 6 VOUT (out), 7 VS+ (power)
part B pins: 1 NC, 5 NC, 8 NC

## THS3201DRG4
designator U?
1.8 GHz Current Feedback Amplifier, 6.6 to 15 V, -40 to 85 degC, 8-pin SOIC (D8), Green (RoHS & no Sb/Br); Manufacturer: Texas Instruments; PartNumber: THS3201DRG4; 2nd Harmonic(dBc): 64; 3rd Harmonic(dBc): 73; @ MHz: 10; Acl, min stable gain(V/V): 1; BW @ Acl(MHz): 1800; Diff Gain(%): 0.008; Diff Phase(deg): 0.007; Iib(Max)(nA): 50000; Io(Typ)(mA): 115; Settling Time (0.1%)(Typ)(ns): 20; Slew Rate(Typ)(V/us): 6700; Sub Family: High Output Current Amplifier (>=50mA), High Speed Amplifier (>=50MHz); THD (Fc is 1 MHz)(Typ)(dB): -90; Vio(Max)(mV): 4; Vn at Flatband(Typ)(nV/rtHz): 1.65; Vs(Max)(V): 15; Vs(Min)(V): 6.6; DatasheetVersion: SLOS416C; PackageVersion: 4040047-3/M, 06/2011; PackageReference: D8; PackageDescription: 8-Pin Plastic Small Outline, Body 4.9 x 3.9 mm, Pitch 1.27 mm; Supplier 1: Digi-Key; Supplier Part Number 1: THS3201DRG4-ND; Supplier 2: Mouser; Supplier Part Number 2: 595-THS3201DRG4; Eco-Plan: Green (RoHS & no Sb/Br); Number of Channels: 1; Mounting Technology: Surface Mount; Code_JEDEC: MS-012; ComponentLink1Description: Manufacturer URL; ComponentLink1URL: http://www.ti.com/; ComponentLink2Description: Datasheet; ComponentLink2URL: http://www.ti.com/general/docs/lit/getliterature.tsp?genericPartNumber=THS3201&fileType=pdf; ComponentLink3Description: Package Specification; ComponentLink3URL: http://www.ti.com/litv/pdf/msoi002j
footprint TI-D8_N (SOIC, 8-Leads, Body 4.9x3.9mm, Pitch 1.27mm, IPC Medium Density)
footprint TI-D8_L (SOIC, 8-Leads, Body 4.9x3.9mm, Pitch 1.27mm, IPC High Density)
footprint TI-D8_M (SOIC, 8-Leads, Body 4.9x3.9mm, Pitch 1.27mm, IPC Low Density)
part A pins: 2 VIN- (in), 3 VIN+ (in), 4 VS- (power), 6 VOUT (out), 7 VS+ (power)
part B pins: 1 NC, 5 NC, 8 NC

## THS3201MDGNREP
designator U?
Enhanced Product 1.8-Ghz Low Distortion Current Feedback Amplifier, 6.6 to 15 V, -55 to 125 degC, 8-pin SOP (DGN8), Green (RoHS & no Sb/Br); Manufacturer: Texas Instruments; PartNumber: THS3201MDGNREP; 2nd Harmonic(dBc): 64; 3rd Harmonic(dBc): 73; @ MHz: 10; Acl, min stable gain(V/V): 1; BW @ Acl(MHz): 1800; Diff Gain(%): 0.008; Diff Phase(deg): 0.007; Iib(Max)(nA): 90000; Io(Typ)(mA): 115; Iq per channel(Max)(mA): 22; Settling Time (0.1%)(Typ)(ns): 20; Slew Rate(Typ)(V/us): 6700; Sub Family: High Output Current Amplifier (>=50mA), High Speed Amplifier (>=50MHz); Vio(Max)(mV): 6; Vn at Flatband(Typ)(nV/rtHz): 1.65; Vs(Max)(V): 15; Vs(Min)(V): 6.6; DatasheetVersion: SGLS283B; PackageVersion: 4073271/F, 05/2011; PackageReference: DGN8-1760X1425TP; PackageDescription: 8-pin Plastic Small Outline, Body 3 x 3 mm, Pitch 0.65 mm; Supplier 1: Digi-Key; Supplier Part Number 1: 296-18133-2-ND; Supplier 2: Digi-Key; Supplier Part Number 2: 296-18133-1-ND; Supplier 3: Digi-Key; Supplier Part Number 3: 296-18133-6-ND; Supplier 4: Newark; Supplier Part Number 4: 46M0921; Supplier 5: Mouser; Supplier Part Number 5: 595-THS3201MDGNREP; Eco-Plan: Green (RoHS & no Sb/Br); Number of Channels: 1; Mounting Technology: Surface Mount; Code_JEDEC: MO-187; ComponentLink1Description: Manufacturer URL; ComponentLink1URL: http://www.ti.com/; ComponentLink2Description: Datasheet; ComponentLink2URL: http://www.ti.com/general/docs/lit/getliterature.tsp?genericPartNumber=THS3201-EP&fileType=pdf; ComponentLink3Description: Package Specification; ComponentLink3URL: http://www.ti.com/litv/pdf/mpds046e
footprint TI-DGN8-1760X1425TP_N (SOP, 8-Leads, Body 3x3mm, Pitch 0.65mm, Thermal Pad 1.76x1.425mm, IPC Medium Density)
footprint TI-DGN8-1760X1425TP_L (SOP, 8-Leads, Body 3x3mm, Pitch 0.65mm, Thermal Pad 1.76x1.425mm, IPC High Density)
footprint TI-DGN8-1760X1425TP_M (SOP, 8-Leads, Body 3x3mm, Pitch 0.65mm, Thermal Pad 1.76 x 1.425 mm, IPC Low Density)
part A pins: 2 VIN- (in), 3 VIN+ (in), 4 VS- (power), 6 VOUT- (out), 7 VS+ (power), 9 EP (power)
part B pins: 1 NC, 5 NC, 8 NC

## THS3202D
designator U?
2 GHz Current Feedback Amplifier, 6.6 to 15 V, -40 to 85 degC, 8-pin SOIC (D8), Green (RoHS & no Sb/Br); Manufacturer: Texas Instruments; PartNumber: THS3202D; 2nd Harmonic(dBc): 69; 3rd Harmonic(dBc): 80; @ MHz: 16; Acl, min stable gain(V/V): 1; BW @ Acl(MHz): 2000; Diff Gain(%): 0.004; Diff Phase(deg): 0.006; Iib(Max)(nA): 50000; Io(Typ)(mA): 115; Iq per channel(Max)(mA): 20; Number of Channels: 2; Settling Time (0.1%)(Typ)(ns): 23; Slew Rate(Typ)(V/us): 9000; Sub Family: High Output Current Amplifier (>=50mA), High Speed Amplifier (>=50MHz); THD (Fc is 1 MHz)(Typ)(dB): -86; Vio(Max)(mV): 5; Vn at Flatband(Typ)(nV/rtHz): 1.65; Vs(Max)(V): 15; Vs(Min)(V): 6.6; DatasheetVersion: SLOS242F; PackageVersion: 4040047-3/M, 06/2011; PackageReference: D8; PackageDescription: 8-Pin Plastic Small Outline, Body 4.9 x 3.9 mm, Pitch 1.27 mm; Supplier 1: Digi-Key; Supplier Part Number 1: 296-13655-5-ND; Supplier 2: Farnell; Supplier Part Number 2: 8453080; Supplier 3: Newark; Supplier Part Number 3: 02E7108; Supplier 4: Mouser; Supplier Part Number 4: 595-THS3202D; Eco-Plan: Green (RoHS & no Sb/Br); Mounting Technology: Surface Mount; Code_JEDEC: MS-012; ComponentLink1Description: Manufacturer URL; ComponentLink1URL: http://www.ti.com/; ComponentLink2Description: Datasheet; ComponentLink2URL: http://www.ti.com/general/docs/lit/getliterature.tsp?genericPartNumber=THS3202&fileType=pdf; ComponentLink3Description: Package Specification; ComponentLink3URL: http://www.ti.com/litv/pdf/msoi002j
footprint TI-D8_N (SOIC, 8-Leads, Body 4.9x3.9mm, Pitch 1.27mm, IPC Medium Density)
footprint TI-D8_L (SOIC, 8-Leads, Body 4.9x3.9mm, Pitch 1.27mm, IPC High Density)
footprint TI-D8_M (SOIC, 8-Leads, Body 4.9x3.9mm, Pitch 1.27mm, IPC Low Density)
pins on every part: 4 VS- (power), 8 VS+ (power)
part A pins: 1 VOUT1 (out), 2 VIN1- (in), 3 VIN1+ (in)
part B pins: 5 VIN2+ (in), 6 VIN2- (in), 7 VOUT2 (out)

## THS3202DG4
designator U?
2 GHz Current Feedback Amplifier, 6.6 to 15 V, -40 to 85 degC, 8-pin SOIC (D8), Green (RoHS & no Sb/Br); Manufacturer: Texas Instruments; PartNumber: THS3202DG4; 2nd Harmonic(dBc): 69; 3rd Harmonic(dBc): 80; @ MHz: 16; Acl, min stable gain(V/V): 1; BW @ Acl(MHz): 2000; Diff Gain(%): 0.004; Diff Phase(deg): 0.006; Iib(Max)(nA): 50000; Io(Typ)(mA): 115; Iq per channel(Max)(mA): 20; Number of Channels: 2; Settling Time (0.1%)(Typ)(ns): 23; Slew Rate(Typ)(V/us): 9000; Sub Family: High Output Current Amplifier (>=50mA), High Speed Amplifier (>=50MHz); THD (Fc is 1 MHz)(Typ)(dB): -86; Vio(Max)(mV): 5; Vn at Flatband(Typ)(nV/rtHz): 1.65; Vs(Max)(V): 15; Vs(Min)(V): 6.6; DatasheetVersion: SLOS242F; PackageVersion: 4040047-3/M, 06/2011; PackageReference: D8; PackageDescription: 8-Pin Plastic Small Outline, Body 4.9 x 3.9 mm, Pitch 1.27 mm; Supplier 1: Digi-Key; Supplier Part Number 1: THS3202DG4-ND; Supplier 2: Mouser; Supplier Part Number 2: 595-THS3202DG4; Eco-Plan: Green (RoHS & no Sb/Br); Mounting Technology: Surface Mount; Code_JEDEC: MS-012; ComponentLink1Description: Manufacturer URL; ComponentLink1URL: http://www.ti.com/; ComponentLink2Description: Datasheet; ComponentLink2URL: http://www.ti.com/general/docs/lit/getliterature.tsp?genericPartNumber=THS3202&fileType=pdf; ComponentLink3Description: Package Specification; ComponentLink3URL: http://www.ti.com/litv/pdf/msoi002j
footprint TI-D8_N (SOIC, 8-Leads, Body 4.9x3.9mm, Pitch 1.27mm, IPC Medium Density)
footprint TI-D8_L (SOIC, 8-Leads, Body 4.9x3.9mm, Pitch 1.27mm, IPC High Density)
footprint TI-D8_M (SOIC, 8-Leads, Body 4.9x3.9mm, Pitch 1.27mm, IPC Low Density)
pins on every part: 4 VS- (power), 8 VS+ (power)
part A pins: 1 VOUT1 (out), 2 VIN1- (in), 3 VIN1+ (in)
part B pins: 5 VIN2+ (in), 6 VIN2- (in), 7 VOUT2 (out)

## THS3202DGK
designator U?
2 GHz Current Feedback Amplifier, 6.6 to 15 V, -40 to 85 degC, 8-pin SOP (DGK8), Green (RoHS & no Sb/Br); Manufacturer: Texas Instruments; PartNumber: THS3202DGK; 2nd Harmonic(dBc): 69; 3rd Harmonic(dBc): 80; @ MHz: 16; Acl, min stable gain(V/V): 1; BW @ Acl(MHz): 2000; Diff Gain(%): 0.004; Diff Phase(deg): 0.006; Iib(Max)(nA): 50000; Io(Typ)(mA): 115; Iq per channel(Max)(mA): 20; Number of Channels: 2; Settling Time (0.1%)(Typ)(ns): 23; Slew Rate(Typ)(V/us): 9000; Sub Family: High Output Current Amplifier (>=50mA), High Speed Amplifier (>=50MHz); THD (Fc is 1 MHz)(Typ)(dB): -86; Vio(Max)(mV): 5; Vn at Flatband(Typ)(nV/rtHz): 1.65; Vs(Max)(V): 15; Vs(Min)(V): 6.6; DatasheetVersion: SLOS242F; PackageVersion: 4073329/E, 05/2006; PackageReference: DGK8; PackageDescription: 8-Pin Thin Small Outline, Body 3 x 3 mm, Pitch 0.65 mm; Supplier 1: Digi-Key; Supplier Part Number 1: 296-16777-5-ND; Supplier 2: Farnell; Supplier Part Number 2: 8453098; Supplier 3: Newark; Supplier Part Number 3: 01J0831; Supplier 4: Mouser; Supplier Part Number 4: 595-THS3202DGK; Eco-Plan: Green (RoHS & no Sb/Br); Mounting Technology: Surface Mount; Code_JEDEC: MO-187; ComponentLink1Description: Manufacturer URL; ComponentLink1URL: http://www.ti.com/; ComponentLink2Description: Datasheet; ComponentLink2URL: http://www.ti.com/general/docs/lit/getliterature.tsp?genericPartNumber=THS3202&fileType=pdf; ComponentLink3Description: Package Specification; ComponentLink3URL: http://www.ti.com/litv/pdf/mpds028d
footprint TI-DGK8_N (SOP, 8-Leads, Body 3x3mm, Pitch 0.65mm, IPC Medium Density)
footprint TI-DGK8_L (SOP, 8-Leads, Body 3x3mm, Pitch 0.65mm, IPC High Density)
footprint TI-DGK8_M (SOP, 8-Leads, Body 3x3mm, Pitch 0.65mm, IPC Low Density)
pins on every part: 4 VS- (power), 8 VS+ (power)
part A pins: 1 VOUT1 (out), 2 VIN1- (in), 3 VIN1+ (in)
part B pins: 5 VIN2+ (in), 6 VIN2- (in), 7 VOUT2 (out)

## THS3202DGKG4
designator U?
2 GHz Current Feedback Amplifier, 6.6 to 15 V, -40 to 85 degC, 8-pin SOP (DGK8), Green (RoHS & no Sb/Br); Manufacturer: Texas Instruments; PartNumber: THS3202DGKG4; 2nd Harmonic(dBc): 69; 3rd Harmonic(dBc): 80; @ MHz: 16; Acl, min stable gain(V/V): 1; BW @ Acl(MHz): 2000; Diff Gain(%): 0.004; Diff Phase(deg): 0.006; Iib(Max)(nA): 50000; Io(Typ)(mA): 115; Iq per channel(Max)(mA): 20; Number of Channels: 2; Settling Time (0.1%)(Typ)(ns): 23; Slew Rate(Typ)(V/us): 9000; Sub Family: High Output Current Amplifier (>=50mA), High Speed Amplifier (>=50MHz); THD (Fc is 1 MHz)(Typ)(dB): -86; Vio(Max)(mV): 5; Vn at Flatband(Typ)(nV/rtHz): 1.65; Vs(Max)(V): 15; Vs(Min)(V): 6.6; DatasheetVersion: SLOS242F; PackageVersion: 4073329/E, 05/2006; PackageReference: DGK8; PackageDescription: 8-Pin Thin Small Outline, Body 3 x 3 mm, Pitch 0.65 mm; Supplier 1: Digi-Key; Supplier Part Number 1: THS3202DGKG4-ND; Supplier 2: Mouser; Supplier Part Number 2: 595-THS3202DGKG4; Eco-Plan: Green (RoHS & no Sb/Br); Mounting Technology: Surface Mount; Code_JEDEC: MO-187; ComponentLink1Description: Manufacturer URL; ComponentLink1URL: http://www.ti.com/; ComponentLink2Description: Datasheet; ComponentLink2URL: http://www.ti.com/general/docs/lit/getliterature.tsp?genericPartNumber=THS3202&fileType=pdf; ComponentLink3Description: Package Specification; ComponentLink3URL: http://www.ti.com/litv/pdf/mpds028d
footprint TI-DGK8_N (SOP, 8-Leads, Body 3x3mm, Pitch 0.65mm, IPC Medium Density)
footprint TI-DGK8_L (SOP, 8-Leads, Body 3x3mm, Pitch 0.65mm, IPC High Density)
footprint TI-DGK8_M (SOP, 8-Leads, Body 3x3mm, Pitch 0.65mm, IPC Low Density)
pins on every part: 4 VS- (power), 8 VS+ (power)
part A pins: 1 VOUT1 (out), 2 VIN1- (in), 3 VIN1+ (in)
part B pins: 5 VIN2+ (in), 6 VIN2- (in), 7 VOUT2 (out)

## THS3202DGKR
designator U?
2 GHz Current Feedback Amplifier, 6.6 to 15 V, -40 to 85 degC, 8-pin SOP (DGK8), Green (RoHS & no Sb/Br); Manufacturer: Texas Instruments; PartNumber: THS3202DGKR; 2nd Harmonic(dBc): 69; 3rd Harmonic(dBc): 80; @ MHz: 16; Acl, min stable gain(V/V): 1; BW @ Acl(MHz): 2000; Diff Gain(%): 0.004; Diff Phase(deg): 0.006; Iib(Max)(nA): 50000; Io(Typ)(mA): 115; Iq per channel(Max)(mA): 20; Number of Channels: 2; Settling Time (0.1%)(Typ)(ns): 23; Slew Rate(Typ)(V/us): 9000; Sub Family: High Output Current Amplifier (>=50mA), High Speed Amplifier (>=50MHz); THD (Fc is 1 MHz)(Typ)(dB): -86; Vio(Max)(mV): 5; Vn at Flatband(Typ)(nV/rtHz): 1.65; Vs(Max)(V): 15; Vs(Min)(V): 6.6; DatasheetVersion: SLOS242F; PackageVersion: 4073329/E, 05/2006; PackageReference: DGK8; PackageDescription: 8-Pin Thin Small Outline, Body 3 x 3 mm, Pitch 0.65 mm; Supplier 1: Digi-Key; Supplier Part Number 1: THS3202DGKR-ND; Supplier 2: Newark; Supplier Part Number 2: 01J0832; Supplier 3: Mouser; Supplier Part Number 3: 595-THS3202DGKR; Eco-Plan: Green (RoHS & no Sb/Br); Mounting Technology: Surface Mount; Code_JEDEC: MO-187; ComponentLink1Description: Manufacturer URL; ComponentLink1URL: http://www.ti.com/; ComponentLink2Description: Datasheet; ComponentLink2URL: http://www.ti.com/general/docs/lit/getliterature.tsp?genericPartNumber=THS3202&fileType=pdf; ComponentLink3Description: Package Specification; ComponentLink3URL: http://www.ti.com/litv/pdf/mpds028d
footprint TI-DGK8_N (SOP, 8-Leads, Body 3x3mm, Pitch 0.65mm, IPC Medium Density)
footprint TI-DGK8_L (SOP, 8-Leads, Body 3x3mm, Pitch 0.65mm, IPC High Density)
footprint TI-DGK8_M (SOP, 8-Leads, Body 3x3mm, Pitch 0.65mm, IPC Low Density)
pins on every part: 4 VS- (power), 8 VS+ (power)
part A pins: 1 VOUT1 (out), 2 VIN1- (in), 3 VIN1+ (in)
part B pins: 5 VIN2+ (in), 6 VIN2- (in), 7 VOUT2 (out)

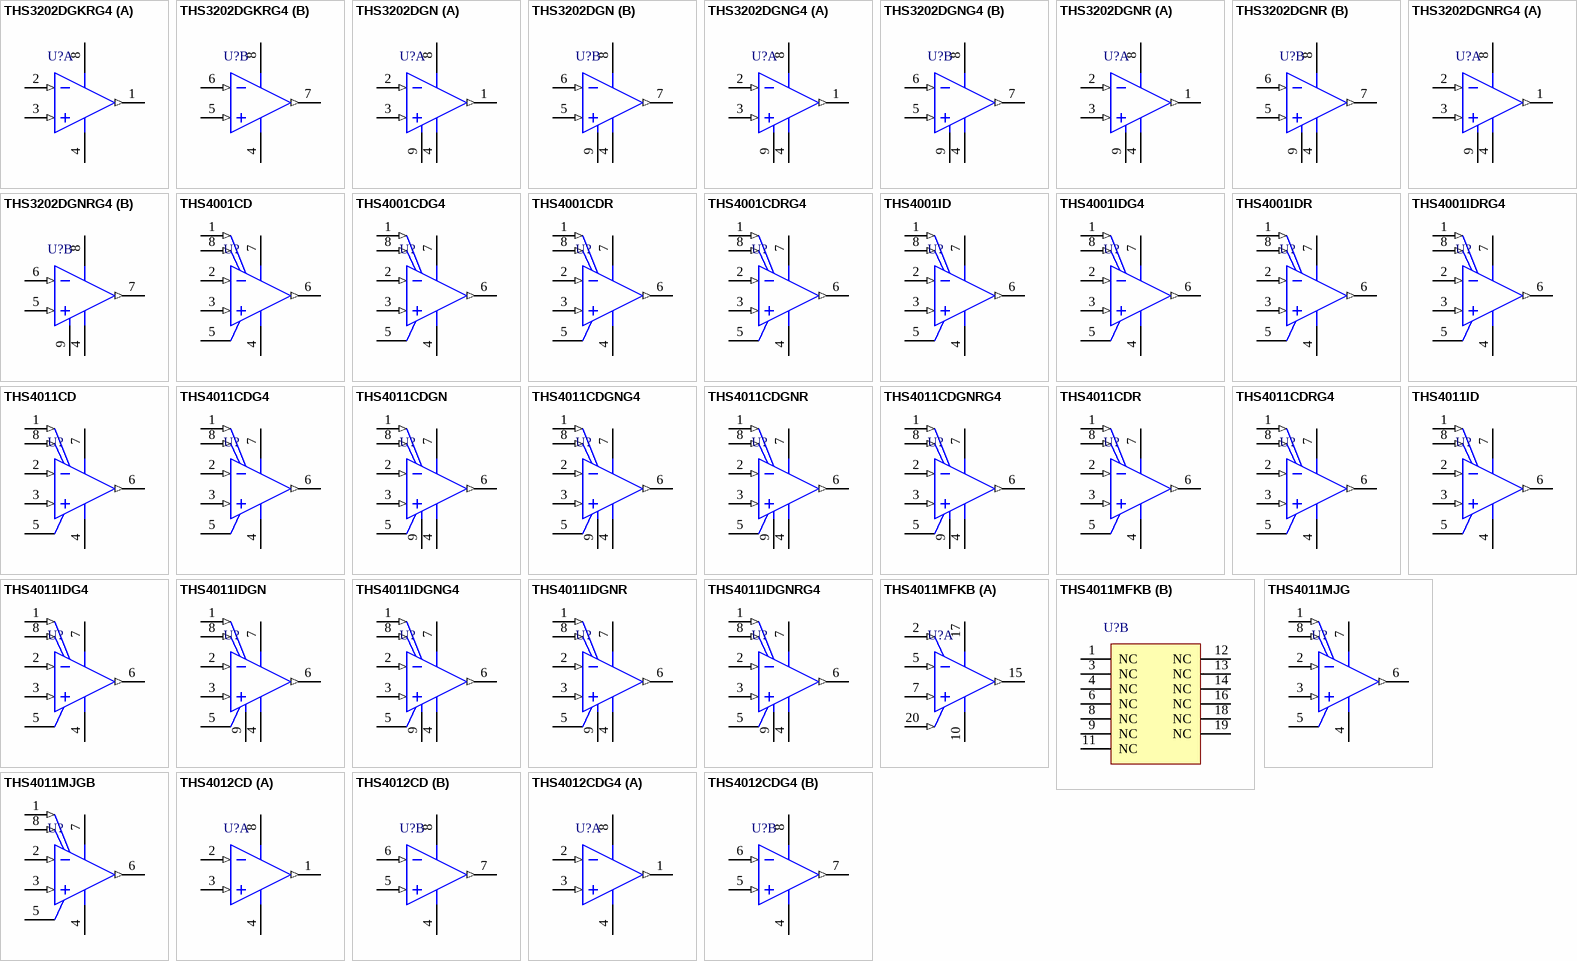
[diagram p31: symbols THS3202DGKRG4 to THS4012CDG4]

## THS3202DGKRG4
designator U?
2 GHz Current Feedback Amplifier, 6.6 to 15 V, -40 to 85 degC, 8-pin SOP (DGK8), Green (RoHS & no Sb/Br); Manufacturer: Texas Instruments; PartNumber: THS3202DGKRG4; 2nd Harmonic(dBc): 69; 3rd Harmonic(dBc): 80; @ MHz: 16; Acl, min stable gain(V/V): 1; BW @ Acl(MHz): 2000; Diff Gain(%): 0.004; Diff Phase(deg): 0.006; Iib(Max)(nA): 50000; Io(Typ)(mA): 115; Iq per channel(Max)(mA): 20; Number of Channels: 2; Settling Time (0.1%)(Typ)(ns): 23; Slew Rate(Typ)(V/us): 9000; Sub Family: High Output Current Amplifier (>=50mA), High Speed Amplifier (>=50MHz); THD (Fc is 1 MHz)(Typ)(dB): -86; Vio(Max)(mV): 5; Vn at Flatband(Typ)(nV/rtHz): 1.65; Vs(Max)(V): 15; Vs(Min)(V): 6.6; DatasheetVersion: SLOS242F; PackageVersion: 4073329/E, 05/2006; PackageReference: DGK8; PackageDescription: 8-Pin Thin Small Outline, Body 3 x 3 mm, Pitch 0.65 mm; Supplier 1: Digi-Key; Supplier Part Number 1: THS3202DGKRG4-ND; Supplier 2: Newark; Supplier Part Number 2: 24K4949; Supplier 3: Mouser; Supplier Part Number 3: 595-THS3202DGKRG4; Eco-Plan: Green (RoHS & no Sb/Br); Mounting Technology: Surface Mount; Code_JEDEC: MO-187; ComponentLink1Description: Manufacturer URL; ComponentLink1URL: http://www.ti.com/; ComponentLink2Description: Datasheet; ComponentLink2URL: http://www.ti.com/general/docs/lit/getliterature.tsp?genericPartNumber=THS3202&fileType=pdf; ComponentLink3Description: Package Specification; ComponentLink3URL: http://www.ti.com/litv/pdf/mpds028d
footprint TI-DGK8_N (SOP, 8-Leads, Body 3x3mm, Pitch 0.65mm, IPC Medium Density)
footprint TI-DGK8_L (SOP, 8-Leads, Body 3x3mm, Pitch 0.65mm, IPC High Density)
footprint TI-DGK8_M (SOP, 8-Leads, Body 3x3mm, Pitch 0.65mm, IPC Low Density)
pins on every part: 4 VS- (power), 8 VS+ (power)
part A pins: 1 VOUT1 (out), 2 VIN1- (in), 3 VIN1+ (in)
part B pins: 5 VIN2+ (in), 6 VIN2- (in), 7 VOUT2 (out)

## THS3202DGN
designator U?
2 GHz Current Feedback Amplifier, 6.6 to 15 V, -40 to 85 degC, 8-pin SOIC (DGN8), Green (RoHS & no Sb/Br); Manufacturer: Texas Instruments; PartNumber: THS3202DGN; 2nd Harmonic(dBc): 69; 3rd Harmonic(dBc): 80; @ MHz: 16; Acl, min stable gain(V/V): 1; BW @ Acl(MHz): 2000; Diff Gain(%): 0.004; Diff Phase(deg): 0.006; Iib(Max)(nA): 50000; Io(Typ)(mA): 115; Iq per channel(Max)(mA): 20; Number of Channels: 2; Settling Time (0.1%)(Typ)(ns): 23; Slew Rate(Typ)(V/us): 9000; Sub Family: High Output Current Amplifier (>=50mA), High Speed Amplifier (>=50MHz); THD (Fc is 1 MHz)(Typ)(dB): -86; Vio(Max)(mV): 5; Vn at Flatband(Typ)(nV/rtHz): 1.65; Vs(Max)(V): 15; Vs(Min)(V): 6.6; DatasheetVersion: SLOS242F; PackageVersion: 4073271/F, 05/2011; PackageReference: DGN8-1760X1425TP; PackageDescription: 8-pin Plastic Small Outline, Body 3 x 3 mm, Pitch 0.65 mm; Supplier 1: Digi-Key; Supplier Part Number 1: 296-13656-5-ND; Supplier 2: Farnell; Supplier Part Number 2: 8453101; Supplier 3: Newark; Supplier Part Number 3: 38K8237; Supplier 4: Newark; Supplier Part Number 4: 02E7109; Supplier 5: Mouser; Supplier Part Number 5: 595-THS3202DGN; Eco-Plan: Green (RoHS & no Sb/Br); Mounting Technology: Surface Mount; Code_JEDEC: MO-187; ComponentLink1Description: Manufacturer URL; ComponentLink1URL: http://www.ti.com/; ComponentLink2Description: Datasheet; ComponentLink2URL: http://www.ti.com/general/docs/lit/getliterature.tsp?genericPartNumber=THS3202&fileType=pdf; ComponentLink3Description: Package Specification; ComponentLink3URL: http://www.ti.com/litv/pdf/mpds046e
footprint TI-DGN8-1760X1425TP_N (SOP, 8-Leads, Body 3x3mm, Pitch 0.65mm, Thermal Pad 1.76x1.425mm, IPC Medium Density)
footprint TI-DGN8-1760X1425TP_L (SOP, 8-Leads, Body 3x3mm, Pitch 0.65mm, Thermal Pad 1.76x1.425mm, IPC High Density)
footprint TI-DGN8-1760X1425TP_M (SOP, 8-Leads, Body 3x3mm, Pitch 0.65mm, Thermal Pad 1.76 x 1.425 mm, IPC Low Density)
pins on every part: 4 VS- (power), 8 VS+ (power), 9 EP (power)
part A pins: 1 VOUT1 (out), 2 VIN1- (in), 3 VIN1+ (in)
part B pins: 5 VIN2+ (in), 6 VIN2- (in), 7 VOUT2 (out)

## THS3202DGNG4
designator U?
2 GHz Current Feedback Amplifier, 6.6 to 15 V, -40 to 85 degC, 8-pin SOIC (DGN8), Green (RoHS & no Sb/Br); Manufacturer: Texas Instruments; PartNumber: THS3202DGNG4; 2nd Harmonic(dBc): 69; 3rd Harmonic(dBc): 80; @ MHz: 16; Acl, min stable gain(V/V): 1; BW @ Acl(MHz): 2000; Diff Gain(%): 0.004; Diff Phase(deg): 0.006; Iib(Max)(nA): 50000; Io(Typ)(mA): 115; Iq per channel(Max)(mA): 20; Number of Channels: 2; Settling Time (0.1%)(Typ)(ns): 23; Slew Rate(Typ)(V/us): 9000; Sub Family: High Output Current Amplifier (>=50mA), High Speed Amplifier (>=50MHz); THD (Fc is 1 MHz)(Typ)(dB): -86; Vio(Max)(mV): 5; Vn at Flatband(Typ)(nV/rtHz): 1.65; Vs(Max)(V): 15; Vs(Min)(V): 6.6; DatasheetVersion: SLOS242F; PackageVersion: 4073271/F, 05/2011; PackageReference: DGN8-1760X1425TP; PackageDescription: 8-pin Plastic Small Outline, Body 3 x 3 mm, Pitch 0.65 mm; Supplier 1: Digi-Key; Supplier Part Number 1: THS3202DGNG4-ND; Supplier 2: Newark; Supplier Part Number 2: 71J7925; Supplier 3: Mouser; Supplier Part Number 3: 595-THS3202DGNG4; Eco-Plan: Green (RoHS & no Sb/Br); Mounting Technology: Surface Mount; Code_JEDEC: MO-187; ComponentLink1Description: Manufacturer URL; ComponentLink1URL: http://www.ti.com/; ComponentLink2Description: Datasheet; ComponentLink2URL: http://www.ti.com/general/docs/lit/getliterature.tsp?genericPartNumber=THS3202&fileType=pdf; ComponentLink3Description: Package Specification; ComponentLink3URL: http://www.ti.com/litv/pdf/mpds046e
footprint TI-DGN8-1760X1425TP_N (SOP, 8-Leads, Body 3x3mm, Pitch 0.65mm, Thermal Pad 1.76x1.425mm, IPC Medium Density)
footprint TI-DGN8-1760X1425TP_L (SOP, 8-Leads, Body 3x3mm, Pitch 0.65mm, Thermal Pad 1.76x1.425mm, IPC High Density)
footprint TI-DGN8-1760X1425TP_M (SOP, 8-Leads, Body 3x3mm, Pitch 0.65mm, Thermal Pad 1.76 x 1.425 mm, IPC Low Density)
pins on every part: 4 VS- (power), 8 VS+ (power), 9 EP (power)
part A pins: 1 VOUT1 (out), 2 VIN1- (in), 3 VIN1+ (in)
part B pins: 5 VIN2+ (in), 6 VIN2- (in), 7 VOUT2 (out)